# Altium schematic symbol library MyLibraryV2.SchLib: 572 symbols (part 5 of 11)
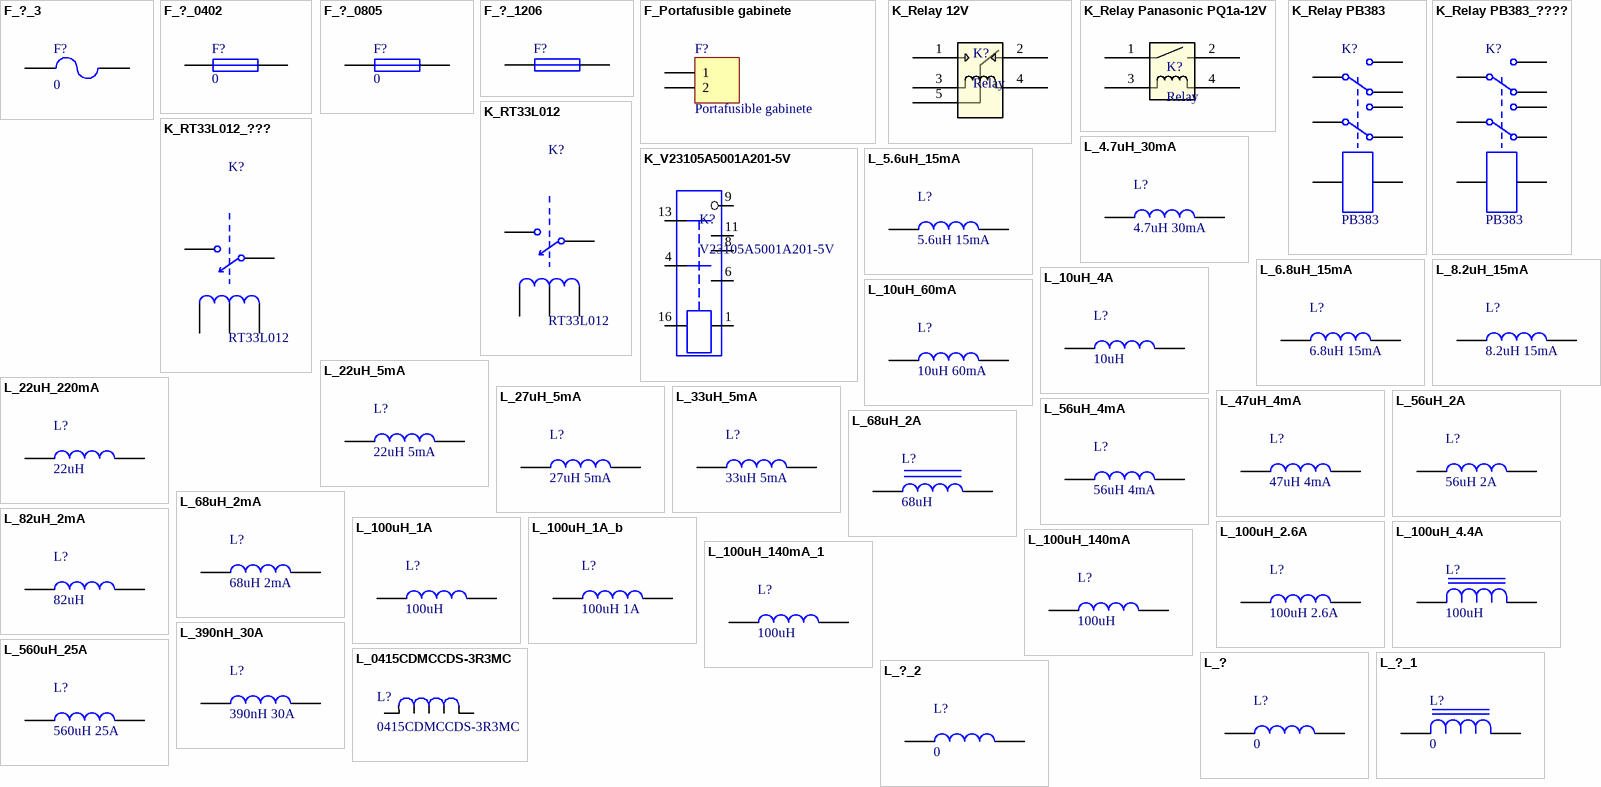
[diagram p20: symbols F_?_3 to L_?_2]

## L_22uH_5mA
designator L?, comment 22uH 5mA
Inductor SMD 0805; Manufacturer: Bourns; Manufacturer Part Number: CV201210-220K; Core Material: Ferrite; Tolerance: 10%; DC Resistance (DCR): 1.1R; Self Resonant Frequency: 16MHz; Q Factor: 30; Shielding: Shielded; Test Frequency: 1MHz; Mounting Technology: Surface Mount; Case/Package: 0805; Case Code (Metric): 2012; Case Code (Imperial): 0805; Min Operating Temperature: -55°C; Max Operating Temperature: 125°C; Max DC Current: 5mA; Packaging: Tape and Reel; Package Quantity: 2000; Current Rating: 5mA; Termination: SMD/SMT; DC Current: 5mA; Series: CV201210; Length: 0.079inch; Width: 1.25mm; Height: 1.25mm; Height - Seated (Max): 0.058inch; Depth: 1.45mm; Military Standard: Not; RoHS Compliant: Yes; ComponentLink1URL: https://datasheet.ciiva.com/8516/cv201210-8516407.pdf?src-supplier=Avnet; ComponentLink1Description: https://datasheet.ciiva.com/8516/cv201210-8516407.pdf?src-supplier=Avnet; ComponentLink2URL: https://datasheet.ciiva.com/15027/cv201210-15027487.pdf?src-supplier=Digikey; ComponentLink2Description: https://datasheet.ciiva.com/15027/cv201210-15027487.pdf?src-supplier=Digikey; ComponentLink3URL: https://datasheet.ciiva.com/6703/cv201210-6703381.pdf?src-supplier=Digikey; ComponentLink3Description: https://datasheet.ciiva.com/6703/cv201210-6703381.pdf?src-supplier=Digikey; Supplier 1: Mouser; Supplier Part Number 1: 652-CV201210-220K; RoHS: Yes; Category: Fixed Inductors; Stock 1: 7399; Pricing 1: 1=0,1, 10=0,056, 50=0,056, 100=0,046, 1000=0,034, 10000=0,027 (USD); Value: 22uH 5mA
footprint L_0805_2013 (Chip Inductor; Body 2.0 x 1.3 mm (LxW typ))
pins: 1, 2

## L_22uH_220mA
designator L?, comment 22uH
Inductor SMD 0805; Manufacturer: TDK; Manufacturer Part Number: MLZ2012P220WTD25; Core Material: Ferrite; Current Rating: 220mA; Saturation Current: 100mA; Shielding: Shielded; DC Resistance (DCR): 1.25R; Test Frequency: 2MHz; Tolerance: 20%; ESR: 1.625R; Mounting Technology: Surface Mount; Case/Package: 0805; Case Code (Imperial): 0805; Case Code (Metric): 2012; Min Operating Temperature: -55°C; Max Operating Temperature: 125°C; Packaging: Cut Tape; Series: MLZ; RMS Current (Irms): 220mA; Length: 0.079inch; Width: 0.049inch; Height: 1.45mm; Height - Seated (Max): 0.049inch; Ratings: AEC-Q200; RoHS Compliant: Yes; ComponentLink1URL: https://product.tdk.com/info/en/catalog/datasheets/inductor_automotive_decoupling_mlz2012_en.pdf?ref_disty=digikey&src-supplier=Digikey; ComponentLink1Description: https://product.tdk.com/info/en/catalog/datasheets/inductor_automotive_decoupling_mlz2012_en.pdf?ref_disty=digikey&src-supplier=Digikey; ComponentLink2URL: https://product.tdk.com/info/en/catalog/datasheets/inductor_automotive_decoupling_mlz2012_en.pdf?src-supplier=Digikey; ComponentLink2Description: https://product.tdk.com/info/en/catalog/datasheets/inductor_automotive_decoupling_mlz2012_en.pdf?src-supplier=Digikey; Supplier 1: Digikey; Supplier Part Number 1: 445-181778-1-ND; RoHS: Yes; Category: Fixed Inductors; Stock 1: 1252; Pricing 1: 1=0,15, 10=0,124, 25=0,114, 50=0,1004, 100=0,0879, 250=0,08368, 500=0,07866, 1000=0,06026 (USD); Value: 22uH
footprint L_0805_2013 (Chip Inductor; Body 2.0 x 1.3 mm (LxW typ))
pins: 1, 2

## L_27uH_5mA
designator L?, comment 27uH 5mA
Inductor SMD 0805; Manufacturer: TDK; Manufacturer Part Number: MLF2012C270MT000; Core Material: Ferrite; Shielding: Shielded; DC Resistance (DCR): 1R; Self Resonant Frequency: 17MHz; Test Frequency: 1MHz; Tolerance: 20%; Mounting Technology: Surface Mount; Case/Package: 0805; Min Operating Temperature: -40°C; Max Operating Temperature: 85°C; Packaging: Tape and Reel; Impedance: 1R; Series: MLF; RoHS Compliant: Yes; ComponentLink1URL: https://product.tdk.com/info/en/catalog/datasheets/inductor_commercial_standard_mlf2012_en.pdf?ref_disty=digikey&src-supplier=Digikey; ComponentLink1Description: https://product.tdk.com/info/en/catalog/datasheets/inductor_commercial_standard_mlf2012_en.pdf?ref_disty=digikey&src-supplier=Digikey; Supplier 1: Digikey; Supplier Part Number 1: 445-8979-1-ND; RoHS: Yes; Category: Fixed Inductors; Stock 1: 432; Pricing 1: 1=0,15, 10=0,122, 25=0,112, 50=0,0988, 100=0,0865, 250=0,0824, 500=0,07746, 1000=0,05933 (USD); Value: 27uH 5mA
footprint L_0805_2013 (Chip Inductor; Body 2.0 x 1.3 mm (LxW typ))
pins: 1, 2

## L_33uH_5mA
designator L?, comment 33uH 5mA
Inductor SMD 0805; Manufacturer: Bourns; Manufacturer Part Number: CV201210-330K; Core Material: Ferrite; Shielding: Shielded; Self Resonant Frequency: 13MHz; DC Resistance (DCR): 1.25R; Tolerance: 10%; Q Factor: 30; Test Frequency: 400kHz; Mounting Technology: Surface Mount; Case/Package: 0805; Case Code (Metric): 2012; Case Code (Imperial): 0805; Min Operating Temperature: -55°C; Max Operating Temperature: 125°C; Packaging: Tape and Reel; Series: CV201210; Package Quantity: 2000; Current Rating: 5mA; Max DC Current: 5mA; Termination: SMD/SMT; DC Current: 5mA; Length: 0.079inch; Width: 1.25mm; Height: 1.25mm; Height - Seated (Max): 0.057inch; Depth: 1.45mm; Military Standard: Not; RoHS Compliant: Yes; ComponentLink1URL: https://datasheet.ciiva.com/8516/cv201210-8516423.pdf?src-supplier=Avnet; ComponentLink1Description: https://datasheet.ciiva.com/8516/cv201210-8516423.pdf?src-supplier=Avnet; Supplier 1: Mouser; Supplier Part Number 1: 652-CV201210-330K; RoHS: Yes; Category: Fixed Inductors; Stock 1: 16880; Pricing 1: 1=0,1, 10=0,062, 50=0,062, 100=0,05, 1000=0,038, 10000=0,024 (USD); Value: 33uH 5mA
footprint L_0805_2013 (Chip Inductor; Body 2.0 x 1.3 mm (LxW typ))
pins: 1, 2

## L_47uH_4mA
designator L?, comment 47uH 4mA
Inductor SMD 0805; Manufacturer: TDK; Manufacturer Part Number: MLF2012K470MT000; Core Material: Ferrite; Shielding: Shielded; DC Resistance (DCR): 2.7R; Self Resonant Frequency: 11MHz; Test Frequency: 2MHz; Tolerance: 20%; Mounting Technology: Surface Mount; Case/Package: 0805; Min Operating Temperature: -40°C; Max Operating Temperature: 85°C; Packaging: Tape and Reel; Current Rating: 4mA; Series: MLF; Length: 0.079inch; Width: 0.049inch; Height - Seated (Max): 0.057inch; RoHS Compliant: Yes; Supplier 1: Digikey; Supplier Part Number 1: 445-MLF2012K470MT000CT-ND; RoHS: Yes; Category: Fixed Inductors; Stock 1: 11741; Pricing 1: 1=0,15, 10=0,122, 25=0,112, 50=0,0988, 100=0,0865, 250=0,0824, 500=0,07746, 1000=0,05933 (USD); Value: 47uH 4mA
footprint L_0805_2013 (Chip Inductor; Body 2.0 x 1.3 mm (LxW typ))
pins: 1, 2

## L_56uH_2A
designator L?, comment 56uH 2A
Inductor SMD 10x10; Manufacturer: Wurth Electronics; Manufacturer Part Number: 7447714560; Core Material: Ferrite; Tolerance: 20%; Self Resonant Frequency: 8.6MHz; Shielding: Shielded; Saturation Current: 2.3A; DC Resistance (DCR): 121mR; Test Frequency: 100kHz; Mounting Technology: Surface Mount; Case/Package: Nonstandard; Min Operating Temperature: -40°C; Max Operating Temperature: 125°C; Packaging: Tape and Reel; Package Quantity: 1; Current Rating: 2A; Inductance Tolerance: 20%; Max DC Current: 2A; Termination: SMD/SMT; RMS Current (Irms): 2A; ESR: 121mR; Series: WE-PD; Length: 10mm; Width: 10mm; Height: 5mm; Height - Seated (Max): 0.197inch; Depth: 10mm; Ratings: AEC-Q200; RoHS Compliant: Yes; Reach SVHC Compliant: Unknown; ComponentLink1URL: https://datasheet.ciiva.com/30489/0900766b81281c11-30489815.pdf?src-supplier=Rs; ComponentLink1Description: https://datasheet.ciiva.com/30489/0900766b81281c11-30489815.pdf?src-supplier=Rs; ComponentLink2URL: https://datasheet.ciiva.com/6693/7447714560-6693350.pdf?src-supplier=Digikey; ComponentLink2Description: https://datasheet.ciiva.com/6693/7447714560-6693350.pdf?src-supplier=Digikey; ComponentLink3URL: https://datasheet.ciiva.com/13276/7447714560-63420-13276898.pdf?src-supplier=Mouser; ComponentLink3Description: https://datasheet.ciiva.com/13276/7447714560-63420-13276898.pdf?src-supplier=Mouser; ComponentLink4URL: https://datasheet.ciiva.com/23790/1645866-23790805.pdf?src-supplier=Newark; ComponentLink4Description: https://datasheet.ciiva.com/23790/1645866-23790805.pdf?src-supplier=Newark; ComponentLink5URL: https://datasheet.ciiva.com/26308/7447714560-eng-tds-26308325.pdf?src-supplier=Distrelec; ComponentLink5Description: https://datasheet.ciiva.com/26308/7447714560-eng-tds-26308325.pdf?src-supplier=Distrelec; ComponentLink6URL: https://datasheet.ciiva.com/6693/7447714560-6693351.pdf?src-supplier=Digikey; ComponentLink6Description: https://datasheet.ciiva.com/6693/7447714560-6693351.pdf?src-supplier=Digikey; ComponentLink7URL: https://datasheet.ciiva.com/6693/7447714560-6693352.pdf?src-supplier=Digikey; ComponentLink7Description: https://datasheet.ciiva.com/6693/7447714560-6693352.pdf?src-supplier=Digikey; Supplier 1: Mouser; Supplier Part Number 1: 710-7447714560; RoHS: Yes; Category: Fixed Inductors; Stock 1: 3839; Pricing 1: 1=2,26, 10=2,17, 50=1,96, 100=1,76, 1000=1,18, 10000=1,18 (USD); Value: 56uH 2A
footprint L_SMD_10x10
pins: 1, 2

## L_56uH_4mA
designator L?, comment 56uH 4mA
Inductor SMD 0805; Manufacturer: TDK; Manufacturer Part Number: MLF2012K560M; Core Material: Ferrite; Self Resonant Frequency: 10MHz; Tolerance: 20%; Shielding: Shielded; DC Resistance (DCR): 2.8R; Test Frequency: 2MHz; Q Factor: 55; Mounting Technology: Surface Mount; Case/Package: 0805; Case Code (Metric): 2012; Case Code (Imperial): 0805; Weight: 0.000194oz; Min Operating Temperature: -40°C; Max Operating Temperature: 85°C; Packaging: Tape and Reel; Series: MLF; Max DC Current: 4mA; Termination: SMD/SMT; Length: 2mm; Width: 1.25mm; Height: 1.25mm; ComponentLink1URL: http://www.mouser.com/ds/2/400/nductor_commercial_standard_mlf2012_en-936986.pdf?src-supplier=Mouser; ComponentLink1Description: http://www.mouser.com/ds/2/400/nductor_commercial_standard_mlf2012_en-936986.pdf?src-supplier=Mouser; ComponentLink2URL: https://product.tdk.com/info/en/catalog/datasheets/inductor_commercial_standard_mlf2012_en.pdf?src-supplier=Digikey; ComponentLink2Description: https://product.tdk.com/info/en/catalog/datasheets/inductor_commercial_standard_mlf2012_en.pdf?src-supplier=Digikey; Supplier 1: Mouser; Supplier Part Number 1: 810-MLF2012K560M; RoHS: Yes; Category: Fixed Inductors; Stock 1: 772; Pricing 1: 1=0,14, 10=0,129, 50=0,129, 100=0,088, 1000=0,058, 10000=0,05 (USD); Value: 56uH 4mA
footprint L_0805_2013 (Chip Inductor; Body 2.0 x 1.3 mm (LxW typ))
pins: 1, 2

## L_68uH_2A
designator L?, comment 68uH
Inductor SMD 6x6; Manufacturer: TDK EPCOS; Manufacturer Part Number: SLF12565T-680M2R0-PF; Core Material: Ferrite; Tolerance: 20%; Shielding: Shielded; Current Rating: 2A; Max DC Current: 2.4A; DC Resistance (DCR): 94.4mR; Test Frequency: 1kHz; Mounting Technology: Surface Mount; Case/Package: Nonstandard; Min Operating Temperature: -20°C; Max Operating Temperature: 105°C; Packaging: Tape and Reel; Package Quantity: 500; Saturation Current: 2A; Termination: SMD/SMT; Series: SLF; Max Current Rating: 2A; Length: 12.5mm; Width: 12.5mm; Height: 6.5mm; Depth: 12.5mm; Lead Free: Lead Free; RoHS Compliant: Yes; ComponentLink1URL: https://datasheet.ciiva.com/11802/0900766b812b7d4f-11802307.pdf?src-supplier=Rs; ComponentLink1Description: https://datasheet.ciiva.com/11802/0900766b812b7d4f-11802307.pdf?src-supplier=Rs; Supplier 1: Mouser; Supplier Part Number 1: 810-SLF12565T-680M; RoHS: Yes; Category: Fixed Inductors; Stock 1: 1748; Pricing 1: 1=1,51, 10=1,38, 50=1,38, 100=0,908, 1000=0,757, 10000=0,671 (USD); Value: 68uH
footprint L_SMD_12,8x12.8
pins: 1, 2

## L_68uH_2mA
designator L?, comment 68uH 2mA
Inductor SMD 0805; Manufacturer: TDK; Manufacturer Part Number: MLF2012C680M; Core Material: Ferrite; Tolerance: 20%; Shielding: Shielded; Self Resonant Frequency: 330MHz; DC Resistance (DCR): 300mR; Test Frequency: 1MHz; Current: 250mA; Q Factor: 45; Mounting Technology: Surface Mount; Case/Package: 0805; Case Code (Metric): 2012; Case Code (Imperial): 0805; Weight: 0.000194oz; Min Operating Temperature: -55°C; Max Operating Temperature: 125°C; Packaging: Tape and Reel; Series: MLF; Current Rating: 2mA; Package Quantity: 2000; Max DC Current: 2mA; Termination: SMD/SMT; Length: 0.079inch; Width: 0.049inch; Height: 0.049inch; ComponentLink1URL: http://www.mouser.com/ds/2/400/nductor_commercial_standard_mlf2012_en-936986.pdf?src-supplier=Mouser; ComponentLink1Description: http://www.mouser.com/ds/2/400/nductor_commercial_standard_mlf2012_en-936986.pdf?src-supplier=Mouser; ComponentLink2URL: https://product.tdk.com/info/en/catalog/datasheets/inductor_commercial_standard_mlf2012_en.pdf?src-supplier=Digikey; ComponentLink2Description: https://product.tdk.com/info/en/catalog/datasheets/inductor_commercial_standard_mlf2012_en.pdf?src-supplier=Digikey; Supplier 1: Digikey; Supplier Part Number 1: 445-8981-1-ND; RoHS: Yes; Category: Fixed Inductors; Stock 1: 366; Pricing 1: 1=0,15, 10=0,122, 25=0,112, 50=0,0988, 100=0,0865, 250=0,0824, 500=0,07746, 1000=0,05933 (USD); Value: 68uH 2mA
footprint L_0805_2013 (Chip Inductor; Body 2.0 x 1.3 mm (LxW typ))
pins: 1, 2

## L_82uH_2mA
designator L?, comment 82uH
Inductor SMD 0805; Manufacturer: TDK; Manufacturer Part Number: MLF2012C820MT000; Core Material: Ferrite; Current Rating: 2mA; Shielding: Shielded; DC Resistance (DCR): 3R; Self Resonant Frequency: 8MHz; Test Frequency: 1MHz; Tolerance: 20%; Mounting Technology: Surface Mount; Case/Package: 0805; Case Code (Imperial): 0805; Case Code (Metric): 2012; Min Operating Temperature: -40°C; Max Operating Temperature: 85°C; Packaging: Cut Tape; Impedance: 3R; Series: MLF; Length: 0.079inch; Width: 0.049inch; Height - Seated (Max): 0.057inch; RoHS Compliant: Yes; ComponentLink1URL: https://product.tdk.com/info/en/catalog/datasheets/inductor_commercial_standard_mlf2012_en.pdf?ref_disty=digikey&src-supplier=Digikey; ComponentLink1Description: https://product.tdk.com/info/en/catalog/datasheets/inductor_commercial_standard_mlf2012_en.pdf?ref_disty=digikey&src-supplier=Digikey; ComponentLink2URL: https://product.tdk.com/info/en/catalog/datasheets/inductor_commercial_standard_mlf2012_en.pdf?src-supplier=Digikey; ComponentLink2Description: https://product.tdk.com/info/en/catalog/datasheets/inductor_commercial_standard_mlf2012_en.pdf?src-supplier=Digikey; Supplier 1: Digikey; Supplier Part Number 1: 445-8982-1-ND; RoHS: Yes; Category: Fixed Inductors; Stock 1: 3469; Pricing 1: 1=0,15, 10=0,122, 25=0,112, 50=0,0988, 100=0,0865, 250=0,0824, 500=0,07746, 1000=0,05933 (USD); Value: 82uH
footprint L_0805_2013 (Chip Inductor; Body 2.0 x 1.3 mm (LxW typ))
pins: 1, 2

## L_100uH_1A
designator L?, comment 100uH
Inductor SMD 7x6.6 (TYS8040101M-10); Manufacturer: Laird Steward; Tolerance: 20%; Current Rating: 1A; Saturation Current: 1.15A; Shielding: Shielded; DC Resistance (DCR): 290mR; Self Resonant Frequency: 4.2MHz; Test Frequency: 100kHz; Value: 100uH; Mounting Technology: Surface Mount; Case/Package: Nonstandard; Min Operating Temperature: -40°C; Max Operating Temperature: 125°C; Packaging: Tape and Reel; Package Quantity: 1000; Max DC Current: 1A; Termination: SMD/SMT; Series: TYS8040; Length: 0.315inch; Width: 0.315inch; Height: 4.2mm; Height - Seated (Max): 0.165inch; RoHS Compliant: Yes; ComponentLink1URL: http://www.mouser.com/ds/2/223/SIP-DS-TYS%208040%200413-558532.pdf?src-supplier=Mouser; ComponentLink1Description: http://www.mouser.com/ds/2/223/SIP-DS-TYS%208040%200413-558532.pdf?src-supplier=Mouser; ComponentLink2URL: https://media.digikey.com/pdf/Data%20Sheets/Laird%20Technologies/Ferrite_EMI_Cable_Cores.pdf?src-supplier=Digikey; ComponentLink2Description: https://media.digikey.com/pdf/Data%20Sheets/Laird%20Technologies/Ferrite_EMI_Cable_Cores.pdf?src-supplier=Digikey; ComponentLink3URL: http://assets.lairdtech.com/home/brandworld/files/TYS8040101M-10.pdf?src-supplier=Digikey; ComponentLink3Description: http://assets.lairdtech.com/home/brandworld/files/TYS8040101M-10.pdf?src-supplier=Digikey; Supplier 1: Digikey; Supplier Part Number 1: 240-2750-1-ND; Manufacturer Part Number: TYS8040101M-10; RoHS: Yes; Category: Fixed Inductors; Stock 1: 11527; Pricing 1: 1=0,64, 10=0,551, 25=0,5056, 50=0,4596, 100=0,409, 250=0,38604, 500=0,33088 (USD)
footprint L_SMD_7x6.6_HCM1A0703V2
pins: 1, 2

## L_100uH_1A_b
designator L?, comment 100uH 1A
Inductor SMD 8x8; Manufacturer: Laird Steward; Manufacturer Part Number: TYS8040101M-10; Tolerance: 20%; Saturation Current: 1.15A; Shielding: Shielded; DC Resistance (DCR): 290mR; Self Resonant Frequency: 4.2MHz; Test Frequency: 100kHz; Mounting Technology: Surface Mount; Case/Package: Nonstandard; Min Operating Temperature: -40°C; Max Operating Temperature: 125°C; Packaging: Tape and Reel; Package Quantity: 1000; Current Rating: 1A; Max DC Current: 1A; Termination: SMD/SMT; Series: TYS8040; Length: 0.315inch; Width: 0.315inch; Height: 4.2mm; Height - Seated (Max): 0.165inch; RoHS Compliant: Yes; ComponentLink1URL: http://www.mouser.com/ds/2/223/SIP-DS-TYS%208040%200413-558532.pdf?src-supplier=Mouser; ComponentLink1Description: http://www.mouser.com/ds/2/223/SIP-DS-TYS%208040%200413-558532.pdf?src-supplier=Mouser; ComponentLink2URL: https://media.digikey.com/pdf/Data%20Sheets/Laird%20Technologies/Ferrite_EMI_Cable_Cores.pdf?src-supplier=Digikey; ComponentLink2Description: https://media.digikey.com/pdf/Data%20Sheets/Laird%20Technologies/Ferrite_EMI_Cable_Cores.pdf?src-supplier=Digikey; ComponentLink3URL: http://assets.lairdtech.com/home/brandworld/files/TYS8040101M-10.pdf?src-supplier=Digikey; ComponentLink3Description: http://assets.lairdtech.com/home/brandworld/files/TYS8040101M-10.pdf?src-supplier=Digikey; Supplier 1: Mouser; Supplier Part Number 1: 875-TYS8040101M-10; RoHS: Yes; Category: Fixed Inductors; Stock 1: 4811; Pricing 1: 1=0,64, 10=0,46, 50=0,46, 100=0,331, 1000=0,294, 10000=0,266 (USD); Value: 100uH 1A
footprint L_SMD_8x8
pins: 1, 2

## L_100uH_2.6A
designator L?, comment 100uH 2.6A
Inductor SMD 12.8x12.8; Manufacturer: Wurth Electronics; Manufacturer Part Number: 744373965101; Core Material: Ferrite; Interface: SPI; Peripherals: Brown-out Detect/Reset,POR,WDT; Memory Format: FLASH; Tolerance: 20%; Saturation Current: 5.2A; Shielding: Shielded; DC Resistance (DCR): 165mR; Self Resonant Frequency: 2.4MHz; Test Frequency: 100kHz; Core Architecture: AVR; Number of I/Os: 5; Memory Size: 2KB; Oscillator Type: Internal; Mounting Technology: Surface Mount; Case/Package: Nonstandard; Pins: 8; Min Operating Temperature: -40°C; Max Operating Temperature: 125°C; Packaging: Cut Tape; Current Rating: 2.6A; Series: WE-LHMI; RoHS Compliant: Yes; ComponentLink1URL: https://katalog.we-online.de/pbs/datasheet/744373965101.pdf?src-supplier=Digikey; ComponentLink1Description: https://katalog.we-online.de/pbs/datasheet/744373965101.pdf?src-supplier=Digikey; Supplier 1: Mouser; Supplier Part Number 1: 710-744373965101; RoHS: Yes; Category: Fixed Inductors; Stock 1: 1472; Pricing 1: 1=2,96, 10=2,86, 50=2,73, 100=2,49, 1000=2,02, 10000=2,02 (USD); Value: 100uH 2.6A
footprint L_SMD_12,8x12.8
pins: 1, 2

## L_100uH_4.4A
designator L?, comment 100uH
Inductor THT Toroide 24x16.6; Manufacturer: Eaton Bussmann; Manufacturer Part Number: CTX100-2-52-R; Core Material: Ferrite; Current Rating: 4.4A; Saturation Current: 4.3A; Tolerance: 20%; Shielding: Unshielded; DC Resistance (DCR): 53.4mR; Test Frequency: 100kHz; Lead/Base Style: Radial; Mounting Technology: Through Hole; Case/Package: Radial; Pins: 2; Weight: 0.864oz; Min Operating Temperature: -40°C; Max Operating Temperature: 75°C; Package Quantity: 70; Packaging: Bulk; Max DC Current: 4.4A; Termination: Radial; DC Current: 4.4A; Series: CTX; Inductance - Parallel: 100uH; Width: 0.654inch; Height: 16.6mm; Lead Pitch: 21.8mm; Depth: 16.6mm; Military Standard: Not; Lead Free: Lead Free; RoHS Compliant: Yes; ComponentLink1URL: https://datasheet.ciiva.com/30182/4935b080188143dbb73de2176f2c5e73-30182426.pdf?src-supplier=Onlinecomponents.com; ComponentLink1Description: https://datasheet.ciiva.com/30182/4935b080188143dbb73de2176f2c5e73-30182426.pdf?src-supplier=Onlinecomponents.com; ComponentLink2URL: https://datasheet.ciiva.com/4956/bus-elx-ds-pm4304-lpci-series-4956875.pdf?src-supplier=Mouser; ComponentLink2Description: https://datasheet.ciiva.com/4956/bus-elx-ds-pm4304-lpci-series-4956875.pdf?src-supplier=Mouser; Supplier 1: Digikey; Supplier Part Number 1: 513-1674-ND; RoHS: Yes; Category: Fixed Inductors; Stock 1: 19; Pricing 1: 1=5,56, 70=3,78414, 140=3,50593, 1050=3,1164 (USD); Value: 100uH
footprint L_THT_24x16.6
pins: 1, 2

## L_100uH_140mA
designator L?, comment 100uH
Inductor SMD 0805; Manufacturer: TDK; Manufacturer Part Number: MLZ2012N101LT000; Core Material: Ferrite; Tolerance: 20%; Saturation Current: 30mA; Shielding: Shielded; DC Resistance (DCR): 3.5R; Test Frequency: 2MHz; Mounting Technology: Surface Mount; Case/Package: 0805; Case Code (Metric): 2012; Case Code (Imperial): 0805; Min Operating Temperature: -55°C; Max Operating Temperature: 125°C; Packaging: Cut Tape; Series: MLZ; Lead Free: Lead Free; RoHS Compliant: Yes; ComponentLink1URL: https://datasheet.ciiva.com/29698/inductor-commercial-decoupling-mlz-en-29698903.pdf?src-supplier=Digikey; ComponentLink1Description: https://datasheet.ciiva.com/29698/inductor-commercial-decoupling-mlz-en-29698903.pdf?src-supplier=Digikey; ComponentLink2URL: https://datasheet.ciiva.com/29698/inductor-commercial-decoupling-mlz-en-29698904.pdf?src-supplier=Digikey; ComponentLink2Description: https://datasheet.ciiva.com/29698/inductor-commercial-decoupling-mlz-en-29698904.pdf?src-supplier=Digikey; ComponentLink3URL: https://datasheet.ciiva.com/29698/inductor-commercial-decoupling-mlz-en-29698905.pdf?src-supplier=Digikey; ComponentLink3Description: https://datasheet.ciiva.com/29698/inductor-commercial-decoupling-mlz-en-29698905.pdf?src-supplier=Digikey; Supplier 1: Mouser; Supplier Part Number 1: 810-MLZ2012N101LT000; RoHS: Yes; Category: Fixed Inductors; Stock 1: 114852; Pricing 1: 1=0,12, 10=0,078, 50=0,078, 100=0,061, 1000=0,045, 10000=0,04 (USD); Value: 100uH
footprint L_0805_2013 (Chip Inductor; Body 2.0 x 1.3 mm (LxW typ))
pins: 1, 2

## L_100uH_140mA_1
designator L?, comment 100uH
Inductor SMD 0805; Manufacturer: TDK; Manufacturer Part Number: MLZ2012N101LT000; Core Material: Ferrite; Tolerance: 20%; Saturation Current: 30mA; Shielding: Shielded; DC Resistance (DCR): 3.5R; Test Frequency: 2MHz; Mounting Technology: Surface Mount; Case/Package: 0805; Case Code (Metric): 2012; Case Code (Imperial): 0805; Min Operating Temperature: -55°C; Max Operating Temperature: 125°C; Packaging: Cut Tape; Series: MLZ; Lead Free: Lead Free; RoHS Compliant: Yes; ComponentLink1URL: https://datasheet.ciiva.com/29698/inductor-commercial-decoupling-mlz-en-29698903.pdf?src-supplier=Digikey; ComponentLink1Description: https://datasheet.ciiva.com/29698/inductor-commercial-decoupling-mlz-en-29698903.pdf?src-supplier=Digikey; ComponentLink2URL: https://datasheet.ciiva.com/29698/inductor-commercial-decoupling-mlz-en-29698904.pdf?src-supplier=Digikey; ComponentLink2Description: https://datasheet.ciiva.com/29698/inductor-commercial-decoupling-mlz-en-29698904.pdf?src-supplier=Digikey; ComponentLink3URL: https://datasheet.ciiva.com/29698/inductor-commercial-decoupling-mlz-en-29698905.pdf?src-supplier=Digikey; ComponentLink3Description: https://datasheet.ciiva.com/29698/inductor-commercial-decoupling-mlz-en-29698905.pdf?src-supplier=Digikey; Supplier 1: Mouser; Supplier Part Number 1: 810-MLZ2012N101LT000; RoHS: Yes; Category: Fixed Inductors; Stock 1: 114872; Pricing 1: 1=0,12, 10=0,078, 50=0,078, 100=0,061, 1000=0,045, 10000=0,04 (USD); Value: 100uH
footprint L_0805_2013 (Chip Inductor; Body 2.0 x 1.3 mm (LxW typ))
pins: 1, 2

## L_390nH_30A
designator L?, comment 390nH 30A
Inductor SMD 9.5x10; Manufacturer: Bourns; Manufacturer Part Number: SRP1038A-R39M; Core Material: Carbonyl Powder; Tolerance: 20%; Saturation Current: 60A; Shielding: Shielded; DC Resistance (DCR): 1.3mR; Self Resonant Frequency: 100MHz; Test Frequency: 100kHz; Mounting Technology: Surface Mount; Case/Package: Nonstandard; Min Operating Temperature: -40°C; Max Operating Temperature: 150°C; Packaging: Tape and Reel; Inductance Tolerance: 20%; Max DC Current: 30A; DC Current: 30A; Termination: SMD/SMT; RMS Current (Irms): 30A; Series: SRP1038A; Length: 11.5mm; Height: 3.8mm; Depth: 10.3mm; Ratings: AEC-Q200; Reach SVHC Compliant: No; Military Standard: Not; RoHS Compliant: Yes; ComponentLink1URL: https://datasheet.ciiva.com/46641/70377506-46641063.pdf?src-supplier=Allied+Electronics; ComponentLink1Description: https://datasheet.ciiva.com/46641/70377506-46641063.pdf?src-supplier=Allied+Electronics; ComponentLink2URL: https://datasheet.ciiva.com/46437/1828822-46437128.pdf?src-supplier=Element14; ComponentLink2Description: https://datasheet.ciiva.com/46437/1828822-46437128.pdf?src-supplier=Element14; ComponentLink3URL: https://datasheet.ciiva.com/48685/srp1038a-48685590.pdf?src-supplier=Avnet; ComponentLink3Description: https://datasheet.ciiva.com/48685/srp1038a-48685590.pdf?src-supplier=Avnet; ComponentLink4URL: https://datasheet.ciiva.com/48685/srp1038a-48685592.pdf?src-supplier=Avnet; ComponentLink4Description: https://datasheet.ciiva.com/48685/srp1038a-48685592.pdf?src-supplier=Avnet; Supplier 1: Digikey; Supplier Part Number 1: SRP1038A-R39MCT-ND; RoHS: Yes; Category: Fixed Inductors; Stock 1: 395; Pricing 1: 1=1,43, 10=1,207, 25=1,0976, 50=1,0318, 100=0,8561, 250=0,79028 (USD); Value: 390nH 30A
footprint L_SMD_9.5x10
pins: 1, 2

## L_0415CDMCCDS-3R3MC
designator L?, comment 0415CDMCCDS-3R3MC
(Modificar) Inductor FIXED IND 3.3UH 3.2A 92.4MOHM SM; Value: 0415CDMCCDS-3R3MC
footprint 0415CDMCCDS-3R3MC (FIXED IND 3.3UH 3.2A 92.4MOHM SM)
pins: 1, 2

## L_560uH_25A
designator L?, comment 560uH 25A
Inductor SMD 10.3x10.3; Manufacturer: Pulse; Manufacturer Part Number: PA4342.561NLT; RoHS Compliant: Yes; ComponentLink1URL: https://datasheet.octopart.com/PA4342.561NLT-Pulse-datasheet-142088190.pdf?src-supplier=Master+Electronics; ComponentLink1Description: https://datasheet.octopart.com/PA4342.561NLT-Pulse-datasheet-142088190.pdf?src-supplier=Master+Electronics; ComponentLink2URL: https://datasheet.octopart.com/PA4342.561NLT-Pulse-datasheet-93785733.pdf?src-supplier=Sager+Electronics; ComponentLink2Description: https://datasheet.octopart.com/PA4342.561NLT-Pulse-datasheet-93785733.pdf?src-supplier=Sager+Electronics; Supplier 1: Mouser; Supplier Part Number 1: 673-PA4342.561NLT; RoHS: Yes; Category: Fixed Inductors; Stock 1: 872; Pricing 1: 1=1,21, 10=0,873, 50=0,873, 100=0,669, 1000=0,575, 10000=0,525 (USD); Value: 560uH 25A
footprint L_SMD_10.3x10.3
pins: 1, 2

## L_?
designator L?, comment 0
(Generico) Inductor SMD 0805; Value: 0
footprint L_0805_2013 (Chip Inductor; Body 2.0 x 1.3 mm (LxW typ))
pins: 1, 2

## L_?_1
designator L?, comment 0
(Generico) Inductor THT Toroide 24x16.6; Value: 0
footprint L_24x16.6
pins: 1, 2

## L_?_2
designator L?, comment 0
(Generico) Inductor SMD 9.5x10; Value: 0
footprint L_SMD_9.5x10
pins: 1, 2

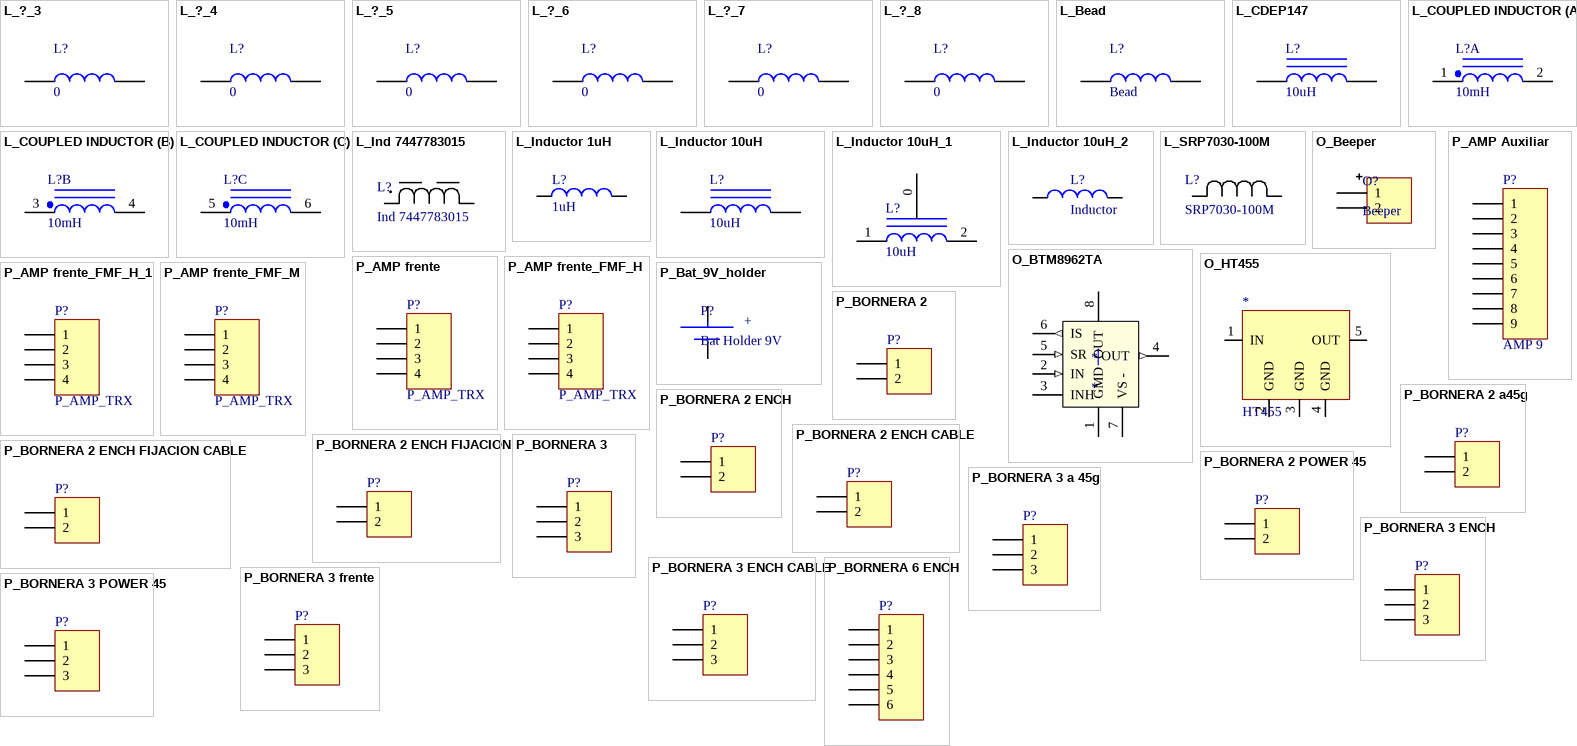
[diagram p6: symbols L_?_3 to P_BORNERA 6 ENCH]

## L_?_3
designator L?, comment 0
(Generico) Inductor SMD 6.6x7.3; Value: 0
footprint L_SMD_6.6-7.3
simulation model INDUCTOR (Inductor)
signal-integrity model Inductor Iron
pins: 1, 2

## L_?_4
designator L?, comment 0
(Generico) Inductor SMD 12.8x12.8; Value: 0
footprint L_0805_2013 (Chip Inductor; Body 2.0 x 1.3 mm (LxW typ))
pins: 1, 2

## L_?_5
designator L?, comment 0
(Generico)  Inductor SMD 10x10; Value: 0
footprint L_SMD_10x10
pins: 1, 2

## L_?_6
designator L?, comment 0
(Generico) Inductor SMD 6x6; Value: 0
footprint L_SMD_6x6
pins: 1, 2

## L_?_7
designator L?, comment 0
(Generico) Inductor SMD 8x8; Value: 0
footprint L_SMD_8x8
pins: 1, 2

## L_?_8
designator L?, comment 0
(Generico) Inductor SMD 10.3x10.3; Value: 0
footprint L_SMD_10.3x10.3
pins: 1, 2

## L_Bead
designator L?, comment Bead
Inductor SMD 0805; Manufacturer: Pulse; Manufacturer Part Number: PE-0805PFB600ST; Number of Lines: 1; Max Current Rating: 3A; Mounting Technology: Surface Mount; Case/Package: 0805; Case Code (Metric): 2012; Case Code (Imperial): 0805; Min Operating Temperature: -40°C; Max Operating Temperature: 105°C; Package Quantity: 4000; Packaging: Cut Tape; Series: PFB; Length: 0.079inch; Width: 0.049inch; Height: 0.041inch; RoHS Compliant: Yes; ComponentLink1URL: https://productfinder.pulseeng.com/doc_type/WEB301/doc_num/WC706/doc_part/WC706.pdf?src-supplier=Digikey; ComponentLink1Description: https://productfinder.pulseeng.com/doc_type/WEB301/doc_num/WC706/doc_part/WC706.pdf?src-supplier=Digikey; ComponentLink2URL: http://productfinder.pulseeng.com/products/datasheets/WC706.pdf?src-supplier=Digikey; ComponentLink2Description: http://productfinder.pulseeng.com/products/datasheets/WC706.pdf?src-supplier=Digikey; Supplier 1: Mouser; Supplier Part Number 1: 673-PE-0805PFB600ST; RoHS: Yes; Category: Ferrite Beads and Chips; Stock 1: 58506; Pricing 1: 1=0,1, 10=0,051, 50=0,051, 100=0,035, 1000=0,025, 10000=0,02 (USD); Value: Bead
footprint L_0805_2013 (Chip Inductor; Body 2.0 x 1.3 mm (LxW typ))
pins: 1, 2

## L_CDEP147
designator L?, comment 10uH
(Modificar) Inductor; Value: 10uH
pins: 1, 2

## L_COUPLED INDUCTOR
designator L?, comment 10mH
(Modificar) Inductor; Value: 10mH
part A pins: 1, 2
part B pins: 3 1, 4 2
part C pins: 5 1, 6 2

## L_Ind 7447783015
designator L?, comment Ind 7447783015
(Modificar) Inductor; Value: Ind 7447783015
pins: 1, 2
text: .

## L_Inductor 1uH
designator L?, comment 1uH
(Modificar) Inductor; Value: 1uH
pins: 1, 2

## L_Inductor 10uH
designator L?, comment 10uH
(Modificar) Inductor; Value: 10uH
pins: 1, 2

## L_Inductor 10uH_1
designator L?, comment 10uH
(Modificar) Inductor; Value: 10uH
pins: 0, 1, 2

## L_Inductor 10uH_2
designator L?, comment Inductor
(Modificar) Inductor; Value: Inductor
pins: 1, 2

## L_SRP7030-100M
designator L?, comment SRP7030-100M
(Modificar) Inductor; Value: SRP7030-100M
pins: 1, 2

## O_Beeper
designator O?, comment Beeper
Value: Beeper
footprint O_BEEPER
pins: 1, 3 2

## O_BTM8962TA
designator *
Value: *
pins: 1 GMD (power), 2 IN (in), 3 INH (power), 4 OUT (out), 5 SR (in), 6 IS (out), 7 VS - (power), 8 OUT (power)

## O_HT455
designator *, comment HT455
(Modificar) Filtro; Value: HT455
footprint HT455 (FILTER 455KHZ)
footprint Model Name (Model Description)
pins: 1 IN, 2 GND, 3 GND, 4 GND, 5 OUT

## P_AMP Auxiliar
designator P?, comment AMP 9
Conector 9 pines; Value: AMP 9
footprint P_AMP_9PINES_M 3D
pins: 1, 2, 3, 4, 5, 6, 7, 8, 9

## P_AMP frente
designator P?, comment P_AMP_TRX
Conector AMP 90º 4-Pin frente gabinete; Value: P_AMP_TRX
footprint P_AMP_TRX (Conector transductor AMP frontal 90 grados)
pins: 1, 2, 3, 4

## P_AMP frente_FMF_H
designator P?, comment P_AMP_TRX
Conector AMP 90º 4-Pin frente gabinete; Manufacturer: Amphenol ICC / FCI; Manufacturer Part Number: 10127819-04211LF; Number of Positions: 4; Gender: Male; Pitch: 0.165inch; Mounting Technology: Through Hole; Contact Plating: Tin; Color: Natural; Contact Material: Brass; Packaging: Tray; Number of Rows: 2; Termination: Solder; Fastening Type: Ramp; Number of Contacts: 4; Series: Minitek Pwr® 4.2; Contact Type: Male Pin; Row Spacing: 0.165inch; Reach SVHC Compliant: No; ComponentLink1URL: https://datasheet.ciiva.com/48769/10127819-48769498.pdf?src-supplier=Avnet; ComponentLink1Description: https://datasheet.ciiva.com/48769/10127819-48769498.pdf?src-supplier=Avnet; Supplier 1: Mouser; Supplier Part Number 1: 649-10127819-04211LF; RoHS: Yes; Category: Connectors; Stock 1: 3695; Pricing 1: 1=0,38, 10=0,345, 50=0,345, 100=0,335, 1000=0,261, 10000=0,224 (USD); Value: P_AMP_TRX
footprint P_CONN HEADER R/A 4POS 4.2MM
pins: 1, 2, 3, 4

## P_AMP frente_FMF_H_1
designator P?, comment P_AMP_TRX
Vertical Header Assemblies-tin Platd 94V-2 4 Circuits | Molex Incorporated 39-28-1043; Voltage Rating: 600V; Current Rating: 8A; Max Voltage Rating (DC): 600.6kV; Connector Type: Receptacle; Number of Positions: 4; Number of Ports: 1; Gender: Female; Pitch: 4.2mm; Row Spacing: 0.165inch; Glow Wire Compliant: Non-compliant; Plating: 154ConductorMaterial; Number of Circuits: 2NUMBER; Voltage Rating (AC): 250V; Contact Resistance: 10mR; Max Current Rating: 1A; Insulation Resistance: 1GR; Approvals: UL,CSA,TUV; Mounting Technology: Through Hole; Contact Plating: Tin; Contact Material: Brass; Color: Natural; Housing Material: Nylon; Min Operating Temperature: -40°C; Max Operating Temperature: 105°C; Termination: Solder; Orientation: Straight; Number of Rows: 2; Package Quantity: 1; Packaging: Tray; Number of Contacts: 4; Series: Mini-Fit® BMI™ 42385; Contact Type: Female Socket; Length: 13.6mm; Depth: 9.6mm; RoHS Compliant: Yes; ComponentLink1URL: https://datasheet.ciiva.com/5150/0015247041-pcb-receptacles-157615-5150508.pdf?src-supplier=Mouser; ComponentLink1Description: https://datasheet.ciiva.com/5150/0015247041-pcb-receptacles-157615-5150508.pdf?src-supplier=Mouser; ComponentLink2URL: https://datasheet.ciiva.com/30220/53320015247041-pcb-receptacles-30220047.pdf?src-supplier=Onlinecomponents.com; ComponentLink2Description: https://datasheet.ciiva.com/30220/53320015247041-pcb-receptacles-30220047.pdf?src-supplier=Onlinecomponents.com; ComponentLink3URL: https://datasheet.ciiva.com/753/015247043-sd-753223.pdf?src-supplier=Digikey; ComponentLink3Description: https://datasheet.ciiva.com/753/015247043-sd-753223.pdf?src-supplier=Digikey; ComponentLink4URL: https://datasheet.ciiva.com/7843/1629710-7843878.pdf?src-supplier=Element14; ComponentLink4Description: https://datasheet.ciiva.com/7843/1629710-7843878.pdf?src-supplier=Element14; Manufacturer: Molex; Manufacturer Part Number: 15-24-7041; RoHS: Yes; Category: Headers and Wire Housings; Stock 1: 3239; Pricing 1: 1=1,47, 10=1,18, 50=1,18, 100=1,18, 1000=0,929, 10000=0,813 (USD); Value: P_AMP_TRX; Supplier 1: Mouser; Supplier Part Number 1: 538-39-28-1043; Supplier: Mouser; Supplier Part Number: 538-39-28-1043; Stock: 114139; Pricing: 1=0.54, 10=0.439, 50=0.439, 100=0.358, 1000=0.35, 10000=0.348 (USD); Material: Nylon; Housing Color: Natural; Number of Poles: 4; Contact Gender: Male; Working Voltage: 250V; Fastening Type: Ramp; Max Voltage Rating (AC): 600V; Voltage Rating (DC): 600V; Height: 14mm; Lead Pitch: 4.2mm; Reach SVHC Compliant: Unknown; Halogen Free: 5696HalogenFree; Flammability Rating: UL94 V-2; Lead Free: 5697LeadFree; ComponentLink5URL: https://datasheet.ciiva.com/26916/getdatasheetpartid-295516-26916594.pdf?src-supplier=Verical; ComponentLink5Description: https://datasheet.ciiva.com/26916/getdatasheetpartid-295516-26916594.pdf?src-supplier=Verical; ComponentLink6URL: https://datasheet.ciiva.com/11746/0900766b80460da1-11746722.pdf?src-supplier=Rs; ComponentLink6Description: https://datasheet.ciiva.com/11746/0900766b80460da1-11746722.pdf?src-supplier=Rs; ComponentLink7URL: https://datasheet.ciiva.com/5159/0039281043-pcb-headers-228404-5159395.pdf?src-supplier=Mouser; ComponentLink7Description: https://datasheet.ciiva.com/5159/0039281043-pcb-headers-228404-5159395.pdf?src-supplier=Mouser
footprint P_CONN RCPT 4POS 4.2mm
pins: 1, 2, 3, 4

## P_AMP frente_FMF_M
designator P?, comment P_AMP_TRX
Conector AMP 4-Pin frente gabinete; Manufacturer: Molex; Voltage Rating: 600V; Current Rating: 8A; Max Voltage Rating (DC): 600.6kV; Connector Type: Receptacle; Number of Positions: 4; Number of Ports: 1; Gender: Female; Pitch: 4.2mm; Row Spacing: 0.165inch; Glow Wire Compliant: Non-compliant; Mounting Technology: Through Hole; Contact Plating: Tin; Contact Material: Brass; Color: Natural; Housing Material: Nylon; Min Operating Temperature: -40°C; Max Operating Temperature: 105°C; Termination: Solder; Orientation: Straight; Number of Rows: 2; Package Quantity: 1; Packaging: Tray; Number of Contacts: 4; Series: Mini-Fit® BMI™ 42385; Contact Type: Female Socket; Length: 13.6mm; Depth: 9.6mm; RoHS Compliant: Yes; ComponentLink1URL: https://datasheet.ciiva.com/5150/0015247041-pcb-receptacles-157615-5150508.pdf?src-supplier=Mouser; ComponentLink1Description: https://datasheet.ciiva.com/5150/0015247041-pcb-receptacles-157615-5150508.pdf?src-supplier=Mouser; ComponentLink2URL: https://datasheet.ciiva.com/30220/53320015247041-pcb-receptacles-30220047.pdf?src-supplier=Onlinecomponents.com; ComponentLink2Description: https://datasheet.ciiva.com/30220/53320015247041-pcb-receptacles-30220047.pdf?src-supplier=Onlinecomponents.com; ComponentLink3URL: https://datasheet.ciiva.com/753/015247043-sd-753223.pdf?src-supplier=Digikey; ComponentLink3Description: https://datasheet.ciiva.com/753/015247043-sd-753223.pdf?src-supplier=Digikey; ComponentLink4URL: https://datasheet.ciiva.com/7843/1629710-7843878.pdf?src-supplier=Element14; ComponentLink4Description: https://datasheet.ciiva.com/7843/1629710-7843878.pdf?src-supplier=Element14; Supplier 1: Mouser; Supplier Part Number 1: 538-15-24-7041; Manufacturer Part Number: 15-24-7041; RoHS: Yes; Category: Headers and Wire Housings; Stock 1: 3239; Pricing 1: 1=1,47, 10=1,18, 50=1,18, 100=1,18, 1000=0,929, 10000=0,813 (USD); Value: P_AMP_TRX
footprint P_CONN R/A 4POS 4.2mm
pins: 1, 2, 3, 4

## P_Bat_9V_holder
designator P?, comment Bat Holder 9V
9V cell holder w/ PC pins 80 pcs per tray; Manufacturer: Memory Protection Devices; Manufacturer Part Number: BH9VPC; Number of Cells: 1; Supplier: Digikey; Supplier Part Number: BH9V-PC-ND; RoHS: Yes; Category: Connectors; Stock: 841; Pricing: 1=2.26, 10=1.877, 50=1.648, 100=1.5582, 300=1.4258, 500=1.36814, 1000=1.2936, 2500=1.20125, 5000=1.1358 (USD); Mounting Technology: Through Hole,PCB; Termination: PC Pin; Series: -; RoHS Compliant: Yes; ComponentLink1URL: https://datasheet.ciiva.com/3/bh9vpc-datasheet-3862.pdf?src-supplier=Digikey; ComponentLink1Description: https://datasheet.ciiva.com/3/bh9vpc-datasheet-3862.pdf?src-supplier=Digikey
footprint P_bat_9v_holder
pins: 1 Neg, 2 Pos
text: +

## P_BORNERA 2
designator P?, comment BORNERA 2 6.35mm  (value not drawn)
Bornera 2; Manufacturer: Phoenix Contact; Manufacturer Part Number: 1720033; Max Current Rating: 32A; Number of Contacts: 2; Max Supply Voltage: 500V; Number of Levels: 1; Current: 30A; Voltage: 300V; Wire Gauge (Max): 24AWG; Wire Gauge (Min): 10AWG; Mounting Technology: Through Hole; Pins: 2; Housing Material: Polyamide; Contact Material: Tin; Color: Green; Weight: 0.206353oz; Housing Color: Green; Termination: Solder; Packaging: Bulk; Current Rating: 32A; Series: SMKDS; Number of Rows: 1; Voltage Rating: 500V; Number of Positions: 2; Package Quantity: 50; Number of Positions Per Level: 2; Number of Circuits: 2; Length: 12.7mm; Width: 26.5mm; Height: 18.5mm; Depth: 18.5mm; Pitch: 6.35mm; Wire/Cable Gauge: 24AWG; Radiation Hardening: No; Lead Free: Lead Free; Flammability Rating: UL94 V-0; RoHS Compliant: Yes; Reach SVHC Compliant: Unknown; ComponentLink1URL: https://datasheet.ciiva.com/6751/1720033-6751564.pdf?src-supplier=Digikey; ComponentLink1Description: https://datasheet.ciiva.com/6751/1720033-6751564.pdf?src-supplier=Digikey; ComponentLink2URL: https://datasheet.ciiva.com/3971/1720033-3971024.pdf?src-supplier=Arrow+Electronics; ComponentLink2Description: https://datasheet.ciiva.com/3971/1720033-3971024.pdf?src-supplier=Arrow+Electronics; ComponentLink3URL: https://datasheet.ciiva.com/26824/getdatasheetpartid-299781-26824120.pdf?src-supplier=Verical; ComponentLink3Description: https://datasheet.ciiva.com/26824/getdatasheetpartid-299781-26824120.pdf?src-supplier=Verical; ComponentLink4URL: https://datasheet.ciiva.com/16071/1720033-16071903.pdf?src-supplier=Onlinecomponents.com; ComponentLink4Description: https://datasheet.ciiva.com/16071/1720033-16071903.pdf?src-supplier=Onlinecomponents.com; Supplier 1: Mouser; Supplier Part Number 1: 651-1720033; RoHS: Yes; Category: Terminal Blocks; Stock 1: 1871; Pricing 1: 1=2,1, 10=2,01, 50=1,92, 100=1,79, 1000=1,48, 10000=1,39 (USD); Value: BORNERA 2 6.35mm
footprint P_BORNERA2
pins: 1, 2

## P_BORNERA 2 a45g
designator P?, comment BORNERA 2 6.35mm  (value not drawn)
Bornera 2  6.35mm; Manufacturer: Phoenix Contact; Manufacturer Part Number: 1720033; Max Current Rating: 32A; Number of Contacts: 2; Max Supply Voltage: 500V; Number of Levels: 1; Current: 30A; Voltage: 300V; Wire Gauge (Max): 24AWG; Wire Gauge (Min): 10AWG; Mounting Technology: Through Hole; Pins: 2; Housing Material: Polyamide; Contact Material: Tin; Color: Green; Weight: 0.206353oz; Housing Color: Green; Termination: Solder; Packaging: Bulk; Current Rating: 32A; Series: SMKDS; Number of Rows: 1; Voltage Rating: 500V; Number of Positions: 2; Package Quantity: 50; Number of Positions Per Level: 2; Number of Circuits: 2; Length: 12.7mm; Width: 26.5mm; Height: 18.5mm; Depth: 18.5mm; Pitch: 6.35mm; Wire/Cable Gauge: 24AWG; Radiation Hardening: No; Lead Free: Lead Free; Flammability Rating: UL94 V-0; RoHS Compliant: Yes; Reach SVHC Compliant: Unknown; ComponentLink1URL: https://datasheet.ciiva.com/6751/1720033-6751564.pdf?src-supplier=Digikey; ComponentLink1Description: https://datasheet.ciiva.com/6751/1720033-6751564.pdf?src-supplier=Digikey; ComponentLink2URL: https://datasheet.ciiva.com/3971/1720033-3971024.pdf?src-supplier=Arrow+Electronics; ComponentLink2Description: https://datasheet.ciiva.com/3971/1720033-3971024.pdf?src-supplier=Arrow+Electronics; ComponentLink3URL: https://datasheet.ciiva.com/26824/getdatasheetpartid-299781-26824120.pdf?src-supplier=Verical; ComponentLink3Description: https://datasheet.ciiva.com/26824/getdatasheetpartid-299781-26824120.pdf?src-supplier=Verical; ComponentLink4URL: https://datasheet.ciiva.com/16071/1720033-16071903.pdf?src-supplier=Onlinecomponents.com; ComponentLink4Description: https://datasheet.ciiva.com/16071/1720033-16071903.pdf?src-supplier=Onlinecomponents.com; Supplier 1: Mouser; Supplier Part Number 1: 651-1720033; RoHS: Yes; Category: Terminal Blocks; Stock 1: 1871; Pricing 1: 1=2,1, 10=2,01, 50=1,92, 100=1,79, 1000=1,48, 10000=1,39 (USD); Value: BORNERA 2 6.35mm
footprint P_BORNERA2 - 6.35mm
pins: 1, 2

## P_BORNERA 2 ENCH
designator P?, comment BORNERA 2 ENCH  (value not drawn)
Value: BORNERA 2 ENCH
footprint P_BORNERA2-ENCH
pins: 1, 2

## P_BORNERA 2 ENCH CABLE
designator P?, comment BORNERA 2 ENCH CABLE  (value not drawn)
Value: BORNERA 2 ENCH CABLE
pins: 1, 2

## P_BORNERA 2 ENCH FIJACION
designator P?, comment BORNERA 2 ENCH FIJACION  (value not drawn)
Value: BORNERA 2 ENCH FIJACION
footprint P_BORNERA2-ENCH-FIJA
pins: 1, 2

## P_BORNERA 2 ENCH FIJACION CABLE
designator P?, comment BORNERA 2 ENCH FIJACION CABLE  (value not drawn)
Value: BORNERA 2 ENCH FIJACION CABLE
pins: 1, 2

## P_BORNERA 2 POWER 45
designator P?, comment BORNERA 2 POWER 45  (value not drawn)
Value: BORNERA 2 POWER 45
footprint P_BORNERA2_POT_45
pins: 1, 2

## P_BORNERA 3
designator P?, comment BORNERA 3  (value not drawn)
Bornera 3 POWER 45; Value: BORNERA 3
footprint P_BORNERA3
pins: 1, 2, 3

## P_BORNERA 3 a 45g
designator P?, comment BORNERA 3 6.35mm  (value not drawn)
Manufacturer: Phoenix Contact; Manufacturer Part Number: 1720046; Current Rating: 32A; Number of Positions: 3; Max Supply Voltage: 500V; Number of Levels: 1; Current: 30A; Voltage: 300V; Wire Gauge (Max): 24AWG; Wire Gauge (Min): 10AWG; Mounting Technology: Through Hole; Pins: 3; Color: Green; Weight: 0.299829oz; Contact Material: Tin; Housing Color: Green; Housing Material: Polyamide; Packaging: Bulk; Series: SMKDS; Termination: Solder; Number of Contacts: 3; Max Current Rating: 32A; Number of Rows: 1; Voltage Rating: 500V; Number of Positions Per Level: 3; Number of Circuits: 3; Length: 18.5mm; Width: 26.5mm; Height: 19.05mm; Pitch: 6.35mm; Depth: 18.5mm; Wire/Cable Gauge: 24AWG; Radiation Hardening: No; Lead Free: Lead Free; Reach SVHC Compliant: Unknown; Flammability Rating: UL94 V-0; RoHS Compliant: Yes; ComponentLink1URL: https://datasheet.ciiva.com/16046/1720046-16046080.pdf?src-supplier=Onlinecomponents.com; ComponentLink1Description: https://datasheet.ciiva.com/16046/1720046-16046080.pdf?src-supplier=Onlinecomponents.com; ComponentLink2URL: https://datasheet.ciiva.com/15169/getdatasheetpartid-191290-15169772.pdf?src-supplier=Verical; ComponentLink2Description: https://datasheet.ciiva.com/15169/getdatasheetpartid-191290-15169772.pdf?src-supplier=Verical; ComponentLink3URL: https://datasheet.ciiva.com/6745/1720046-6745344.pdf?src-supplier=Digikey; ComponentLink3Description: https://datasheet.ciiva.com/6745/1720046-6745344.pdf?src-supplier=Digikey; ComponentLink4URL: https://datasheet.ciiva.com/29216/195411-da-01-en-printklemme-1720046-50-st-29216917.pdf?src-supplier=Conrad; ComponentLink4Description: https://datasheet.ciiva.com/29216/195411-da-01-en-printklemme-1720046-50-st-29216917.pdf?src-supplier=Conrad; Supplier 1: Mouser; Supplier Part Number 1: 651-1720046; RoHS: Yes; Category: Terminal Blocks; Stock 1: 16; Pricing 1: 1=3,09, 10=3, 50=2,83, 100=2,62, 1000=2,18, 10000=2,05 (USD); Value: BORNERA 3 6.35mm
footprint P_BORNERA3 - 6.35mm
pins: 1, 2, 3

## P_BORNERA 3 ENCH
designator P?, comment BORNERA 3 ENCH  (value not drawn)
Value: BORNERA 3 ENCH
footprint P_BORNERA3-ENCH
pins: 1, 2, 3

## P_BORNERA 3 ENCH CABLE
designator P?, comment BORNERA 3 ENCH CABLE  (value not drawn)
Value: BORNERA 3 ENCH CABLE
pins: 1, 2, 3

## P_BORNERA 3 frente
designator P?, comment Header 3 Pin  (value not drawn)
Conector 3 Pin; Manufacturer: Amphenol; Manufacturer Part Number: CC-03PMMP-LC7001; ComponentLink1URL: http://datasheet.octopart.com/CC-03PMMP-LC7001-Amphenol-LTW-datasheet-140258545.pdf?src-supplier=Arrow+Electronics; ComponentLink1Description: http://datasheet.octopart.com/CC-03PMMP-LC7001-Amphenol-LTW-datasheet-140258545.pdf?src-supplier=Arrow+Electronics; ComponentLink2URL: http://datasheet.octopart.com/CC-03PMMP-LC7001-Amphenol-LTW-datasheet-140258545.pdf?src-supplier=Mouser; ComponentLink2Description: http://datasheet.octopart.com/CC-03PMMP-LC7001-Amphenol-LTW-datasheet-140258545.pdf?src-supplier=Mouser; ComponentLink3URL: http://datasheet.octopart.com/CC-03PMMP-LC7001-Amphenol-LTW-datasheet-140258545.pdf?src-supplier=Farnell; ComponentLink3Description: http://datasheet.octopart.com/CC-03PMMP-LC7001-Amphenol-LTW-datasheet-140258545.pdf?src-supplier=Farnell; ComponentLink4URL: http://datasheet.octopart.com/CC-03PMMP-LC7001-Amphenol-LTW-datasheet-140258545.pdf?src-supplier=Digikey; ComponentLink4Description: http://datasheet.octopart.com/CC-03PMMP-LC7001-Amphenol-LTW-datasheet-140258545.pdf?src-supplier=Digikey; ComponentLink5URL: http://datasheet.octopart.com/CC-03PMMP-LC7001-Amphenol-LTW-datasheet-140258545.pdf?src-supplier=Future+Electronics; ComponentLink5Description: http://datasheet.octopart.com/CC-03PMMP-LC7001-Amphenol-LTW-datasheet-140258545.pdf?src-supplier=Future+Electronics; ComponentLink6URL: http://datasheet.octopart.com/CC-03PMMP-LC7001-Amphenol-LTW-datasheet-140258545.pdf?src-supplier=Verical; ComponentLink6Description: http://datasheet.octopart.com/CC-03PMMP-LC7001-Amphenol-LTW-datasheet-140258545.pdf?src-supplier=Verical; ComponentLink7URL: http://datasheet.octopart.com/CC-03PMMP-LC7001-Amphenol-LTW-datasheet-140258545.pdf?src-supplier=Allied+Electronics; ComponentLink7Description: http://datasheet.octopart.com/CC-03PMMP-LC7001-Amphenol-LTW-datasheet-140258545.pdf?src-supplier=Allied+Electronics; ComponentLink8URL: http://datasheet.octopart.com/CC-03PMMP-LC7001-Amphenol-LTW-datasheet-140258545.pdf?src-supplier=Onlinecomponents.com; ComponentLink8Description: http://datasheet.octopart.com/CC-03PMMP-LC7001-Amphenol-LTW-datasheet-140258545.pdf?src-supplier=Onlinecomponents.com; ComponentLink9URL: http://datasheet.octopart.com/CC-03PMMP-LC7001-Amphenol-LTW-datasheet-140258545.pdf?src-supplier=Newark; ComponentLink9Description: http://datasheet.octopart.com/CC-03PMMP-LC7001-Amphenol-LTW-datasheet-140258545.pdf?src-supplier=Newark; ComponentLink10URL: http://datasheet.octopart.com/CC-03PMMP-LC7001-Amphenol-LTW-datasheet-140258545.pdf?src-supplier=Avnet; ComponentLink10Description: http://datasheet.octopart.com/CC-03PMMP-LC7001-Amphenol-LTW-datasheet-140258545.pdf?src-supplier=Avnet; ComponentLink11URL: http://datasheet.octopart.com/CC-03PMMP-LC7001-Amphenol-LTW-datasheet-140258545.pdf?src-supplier=Powell+Electronics; ComponentLink11Description: http://datasheet.octopart.com/CC-03PMMP-LC7001-Amphenol-LTW-datasheet-140258545.pdf?src-supplier=Powell+Electronics; ComponentLink12URL: http://datasheet.octopart.com/CC-03PMMP-LC7001-Amphenol-LTW-datasheet-140258545.pdf?src-supplier=Electro+Sonic; ComponentLink12Description: http://datasheet.octopart.com/CC-03PMMP-LC7001-Amphenol-LTW-datasheet-140258545.pdf?src-supplier=Electro+Sonic; ComponentLink13URL: http://datasheet.octopart.com/CC-03PMMP-LC7001-Amphenol-LTW-datasheet-140258545.pdf?src-supplier=Interstate+Connecting+Components; ComponentLink13Description: http://datasheet.octopart.com/CC-03PMMP-LC7001-Amphenol-LTW-datasheet-140258545.pdf?src-supplier=Interstate+Connecting+Components; ComponentLink14URL: http://datasheet.octopart.com/CC-03PMMP-LC7001-Amphenol-LTW-datasheet-140258545.pdf?src-supplier=Heilind+Electronics; ComponentLink14Description: http://datasheet.octopart.com/CC-03PMMP-LC7001-Amphenol-LTW-datasheet-140258545.pdf?src-supplier=Heilind+Electronics; Supplier 1: Mouser; Supplier Part Number 1: 523-CC-03PMMP-LC7001; RoHS: No; Category: Circular Connectors; Stock 1: 10; Pricing 1: 1=6,7, 10=5,91, 50=5,91, 100=5,91, 1000=4,91, 10000=4,91 (USD); Value: Header 3 Pin
footprint P_4182-3PG-300 (Conector Switchcraft 3P Male)
pins: 1, 2, 3

## P_BORNERA 3 POWER 45
designator P?, comment BORNERA 3 POWER 45  (value not drawn)
Value: BORNERA 3 POWER 45
footprint P_BORNERA3_POT_45
pins: 1, 2, 3

## P_BORNERA 6 ENCH
designator P?, comment BORNERA 6 ENCH  (value not drawn)
Value: BORNERA 6 ENCH
footprint P_BORNERA6-ENCH
pins: 1, 2, 3, 4, 5, 6

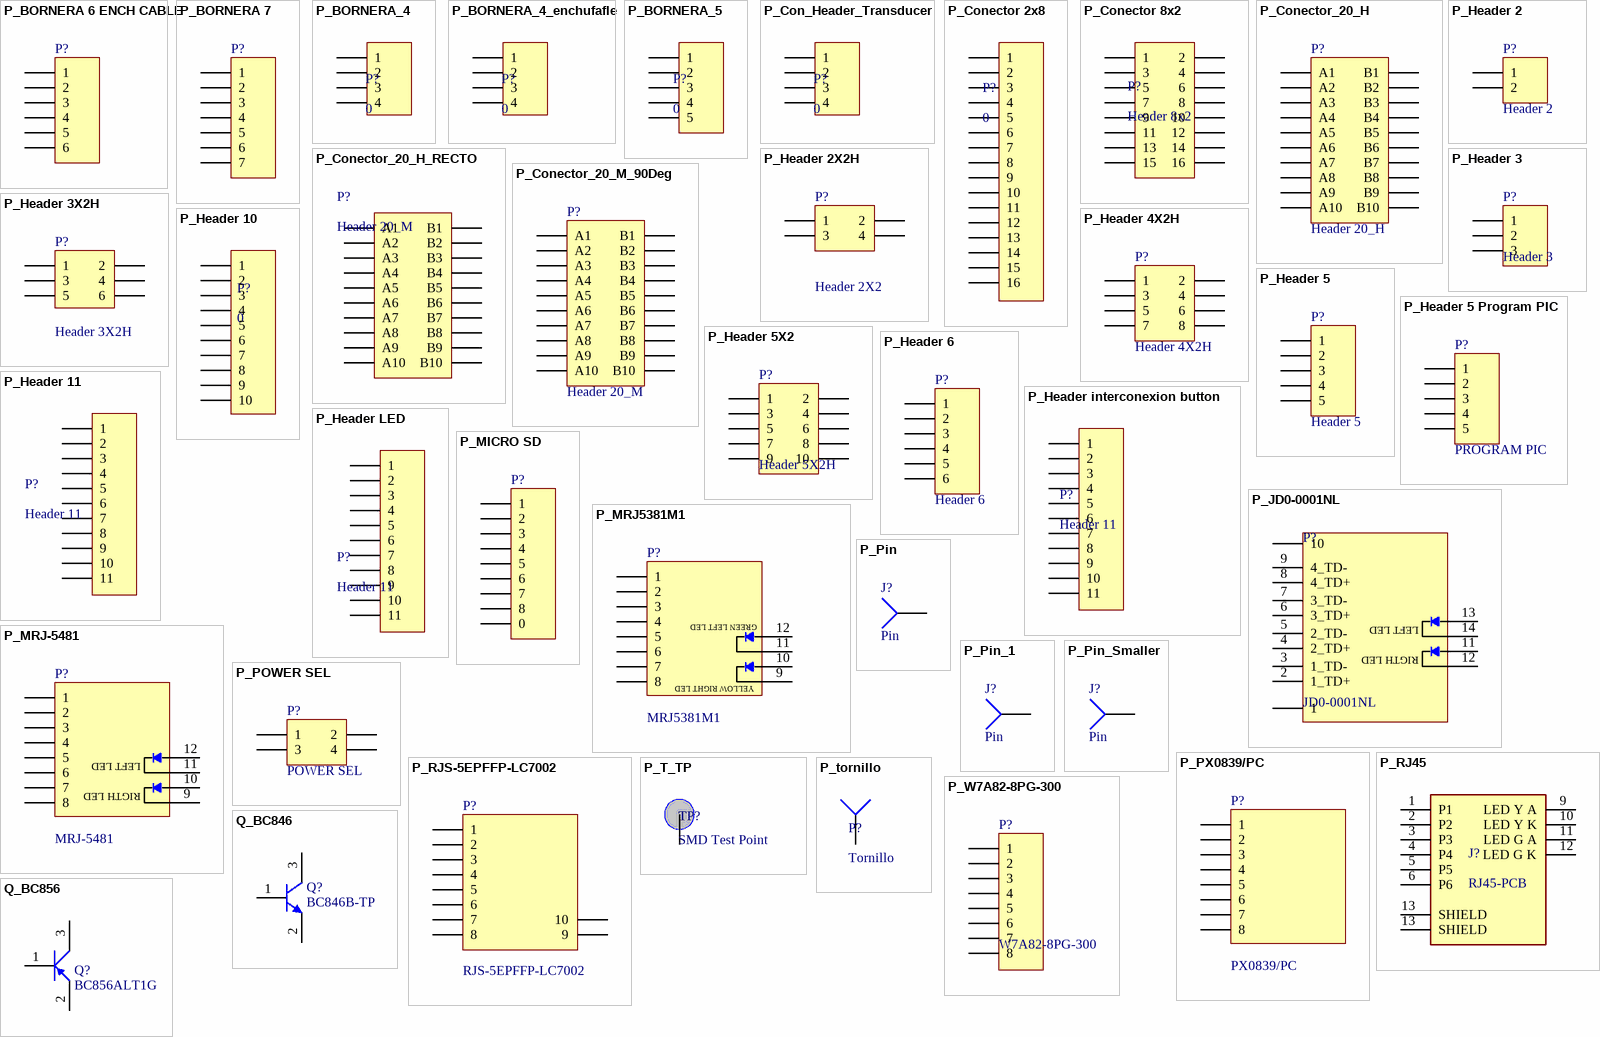
[diagram p7: symbols P_BORNERA 6 ENCH CABLE to Q_BC856]